# EAGLE library part ESP32CAM (library my_devices)
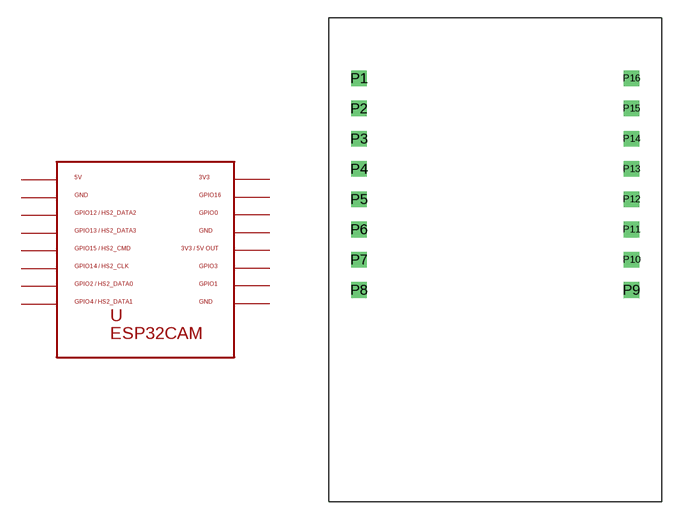
[diagram p20: symbol with the pads of ESP32CAM; footprint ESP32CAM]

Designator prefix U

## ESP32CAM  [ESP32CAM]
P1  GND2  pwr
P2  GPIO1
P3  GPIO3
P4  3V3_5V_OUT
P5  GND1  pwr
P6  GPIO0
P7  GPIO16
P8  3V3  pwr
P9  5V  pwr
P10  GND  pwr
P11  GPIO12
P12  GPIO13
P13  GPIO15
P14  GPIO14
P15  GPIO2
P16  GPIO4

## Footprint ESP32CAM (pad centres in mm)
drill 0.8 square: P1 -11.43,7.62; P2 -11.43,5.08; P3 -11.43,2.54; P4 -11.43,0; P5 -11.43,-2.54; P6 -11.43,-5.08; P7 -11.43,-7.62; P8 -11.43,-10.16; P9 11.43,-10.16; P10 11.43,-7.62; P11 11.43,-5.08; P12 11.43,-2.54; P13 11.43,0; P14 11.43,2.54; P15 11.43,5.08; P16 11.43,7.62